# Altium footprint library FLOM_Converter.PcbLib: 5 footprints
Each footprint in its own frame and in the unit in brackets; x right, y up, seen from the top. Pads: shape width x height; smd on the part's side, far side on the other; paste and mask are expansions set on the pad; w line width, h text height; cw(c..) or ccw(c..) is an arc to the next point about the centre after c.
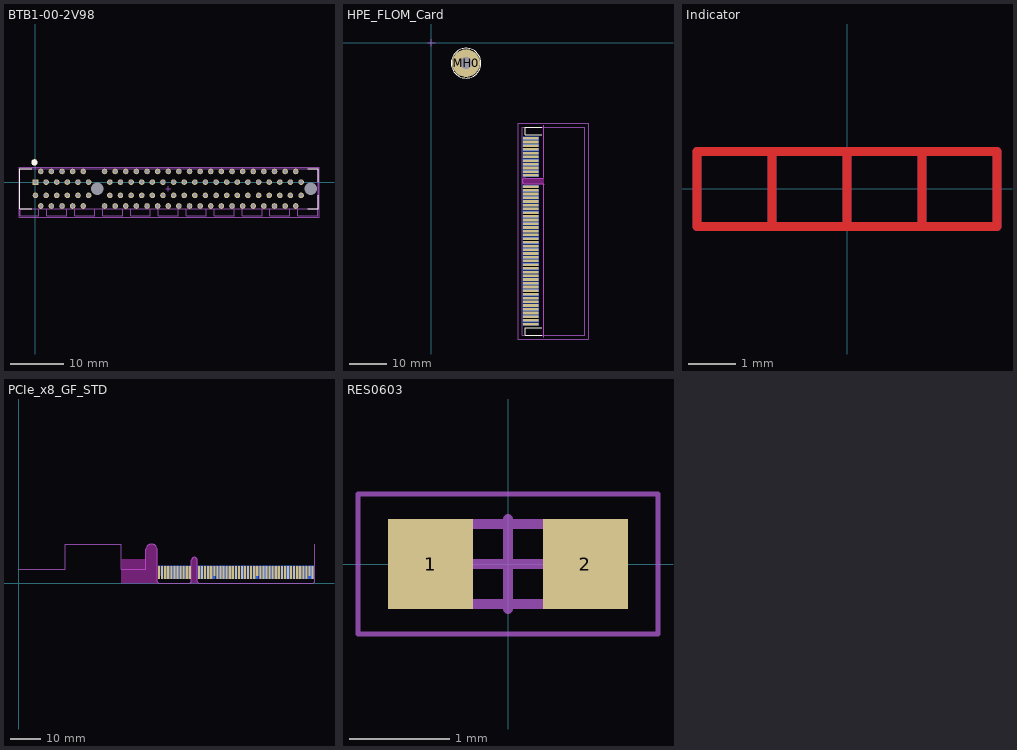
[diagram p0: the footprints below, top view; thin cyan lines are the x and y axes]

## BTB1-00-2V98 [mm] "Board-to-Board Connector, PTH, Vertical, Pitch 1.00mm, 98-Position"
pads (100):
  rect 1.05x1.05 hole 0.7: A1(0,0)
  round 1.05 hole 0.7: A2(1,2) A3(2,0) A4(3,2) A5(4,0) A6(5,2) A7(6,0) A8(7,2) A9(8,0) A10(9,2) A11(10,0) A12(13,2) A13(14,0) A14(15,2) A15(16,0) A16(17,2) A17(18,0) A18(19,2) A19(20,0) A20(21,2) A21(22,0) A22(23,2) A23(24,0) A24(25,2) A25(26,0) A26(27,2) A27(28,0) A28(29,2) A29(30,0) A30(31,2) A31(32,0) A32(33,2) A33(34,0) A34(35,2) A35(36,0) A36(37,2) A37(38,0) A38(39,2) A39(40,0) A40(41,2) A41(42,0) A42(43,2) A43(44,0) A44(45,2) A45(46,0) A46(47,2) A47(48,0) A48(49,2) A49(50,0) B1(0,-2.5) B2(1,-4.5) B3(2,-2.5) B4(3,-4.5) B5(4,-2.5) B6(5,-4.5) B7(6,-2.5) B8(7,-4.5) B9(8,-2.5) B10(9,-4.5) B11(10,-2.5) B12(13,-4.5) B13(14,-2.5) B14(15,-4.5) B15(16,-2.5) B16(17,-4.5) B17(18,-2.5) B18(19,-4.5) B19(20,-2.5) B20(21,-4.5) B21(22,-2.5) B22(23,-4.5) B23(24,-2.5) B24(25,-4.5) B25(26,-2.5) B26(27,-4.5) B27(28,-2.5) B28(29,-4.5) B29(30,-2.5) B30(31,-4.5) B31(32,-2.5) B32(33,-4.5) B33(34,-2.5) B34(35,-4.5) B35(36,-2.5) B36(37,-4.5) B37(38,-2.5) B38(39,-4.5) B39(40,-2.5) B40(41,-4.5) B41(42,-2.5) B42(43,-4.5) B43(44,-2.5) B44(45,-4.5) B45(46,-2.5) B46(47,-4.5) B47(48,-2.5) B48(49,-4.5) B49(50,-2.5)
  round 2.05 hole 2.35 unplated: MH1(11.65,-1.25) MH2(51.8,-1.25)
Top Overlay:
  circle w0.6: c-0.192,3.703 r0.3
  lines w0.2: -0.66,-5 -2.975,-5 -2.975,2.5 -0.66,2.5 ; 51.295,-5 53.275,-5 53.275,-2.52 ; 51.295,2.5 53.275,2.5 53.275,0.02
Mechanical 13:
  lines w0.1: -2.85,-5 -2.85,-6.35 ; 0.65,-5 0.65,-6.35 -2.85,-6.35 ; 2.15,-5 2.15,-6.35 5.9,-6.35 5.9,-5 ; 7.4,-5 7.4,-6.35 11.15,-6.35 11.15,-5 11.151,-5 ; 12.65,-5 12.65,-6.35 16.4,-6.35 16.4,-5 ; 17.9,-5 17.9,-6.35 21.65,-6.35 21.65,-5 ; 23.15,-5 23.15,-6.35 26.9,-6.35 26.914,-6.35 26.914,-5 ; 28.438,-5 28.4,-5 28.4,-6.35 32.15,-6.35 32.15,-5 ; 33.645,-5 33.65,-5 33.65,-6.35 37.4,-6.35 37.4,-5 ; 36.125,-5 36.82,-5 ; 38.9,-5 38.9,-6.35 42.65,-6.35 42.65,-5 42.662,-5 ; 44.15,-5 44.15,-6.35 47.9,-6.35 47.9,-5 ; 49.393,-5 49.4,-5 49.4,-6.35 53.125,-6.35 53.125,-5 ; -2.85,-6.35 -2.85,-6.35 ; -2.975,-5 -2.975,2.5 53.275,2.5 53.275,-5 -2.975,-5
Mechanical 15:
  lines w0.1: 24.5,-1.25 25.5,-1.25 ; 25,-1.75 25,-0.75 ; -3.1,-6.6 53.375,-6.6 53.375,2.75 -3.1,2.75 -3.1,-6.6
3D body: height 11.25, standoff 7.5, extent -2.875,-6.35 0.65,-5
3D body: height 11.25, standoff 7.5, extent 2.15,-6.35 5.9,-5
3D body: height 11.25, standoff 7.5, extent 7.4,-6.35 11.15,-5
3D body: height 11.25, standoff 7.5, extent 12.65,-6.35 16.4,-5
3D body: height 11.25, standoff 7.5, extent 17.9,-6.35 21.65,-5
3D body: height 11.25, standoff 7.5, extent 23.15,-6.35 26.914,-5
3D body: height 11.25, standoff 7.5, extent 28.4,-6.35 32.15,-5
3D body: height 11.25, standoff 7.5, extent 33.645,-6.35 37.4,-5
3D body: height 11.25, standoff 7.5, extent 38.9,-6.35 42.662,-5
3D body: height 11.25, standoff 7.5, extent 44.15,-6.35 48.114,-5
3D body: height 11.25, standoff 7.5, extent 49.4,-6.35 53.15,-5
3D body: height 11.25, standoff 1.25, extent -2.875,-5 53.15,2.5
3D body: height 11.25, standoff 1.25, extent -0.865,-0.35 51.162,2.5
3D body: height 11.25, standoff 1.25, extent 10.785,-0.35 12.515,-0.35
3D body: height 11.25, standoff 1.25, extent 10.785,-2.15 12.515,-0.35
3D body: height 1.25, standoff 0, extent 51.75,-4.1 52.95,-2.35
3D body: height 1.25, standoff 0, extent 51.75,-0.15 52.95,1.6
3D body: height 1.25, standoff 0, extent -2.75,0.4 -1.75,1.6
3D body: height 1.25, standoff 0, extent -2.75,-4.1 -1.75,-2.9

## HPE_FLOM_Card [mm] "HPE FlexibleLOM Card with standard PCIe Bracket"
height 22
pads (99):
  rect 4.2x0.7 smd far side: A1(26.76,-25.7) A2(26.76,-26.7) A3(26.76,-27.7) A4(26.76,-28.7) A5(26.76,-29.7) A6(26.76,-30.7) A7(26.76,-31.7) A8(26.76,-32.7) A9(26.76,-33.7) A10(26.76,-34.7) A11(26.76,-35.7) A12(26.76,-38.7) A13(26.76,-39.7) A14(26.76,-40.7) A15(26.76,-41.7) A16(26.76,-42.7) A17(26.76,-43.7) A18(26.76,-44.7) A19(26.76,-45.7) A20(26.76,-46.7) A21(26.76,-47.7) A22(26.76,-48.7) A23(26.76,-49.7) A24(26.76,-50.7) A25(26.76,-51.7) A26(26.76,-52.7) A27(26.76,-53.7) A28(26.76,-54.7) A29(26.76,-55.7) A30(26.76,-56.7) A31(26.76,-57.7) A32(26.76,-58.7) A33(26.76,-59.7) A34(26.76,-60.7) A35(26.76,-61.7) A36(26.76,-62.7) A37(26.76,-63.7) A38(26.76,-64.7) A39(26.76,-65.7) A40(26.76,-66.7) A41(26.76,-67.7) A42(26.76,-68.7) A43(26.76,-69.7) A44(26.76,-70.7) A45(26.76,-71.7) A46(26.76,-72.7) A47(26.76,-73.7) A48(26.76,-74.7) A49(26.76,-75.7)
  rect 4.2x0.7 smd: B1(26.76,-25.7) B2(26.76,-26.7) B3(26.76,-27.7) B4(26.76,-28.7) B5(26.76,-29.7) B6(26.76,-30.7) B7(26.76,-31.7) B8(26.76,-32.7) B9(26.76,-33.7) B10(26.76,-34.7) B11(26.76,-35.7) B12(26.76,-38.7) B13(26.76,-39.7) B14(26.76,-40.7) B15(26.76,-41.7) B16(26.76,-42.7) B17(26.76,-43.7) B18(26.76,-44.7) B19(26.76,-45.7) B20(26.76,-46.7) B21(26.76,-47.7) B22(26.76,-48.7) B23(26.76,-49.7) B24(26.76,-50.7) B25(26.76,-51.7) B26(26.76,-52.7) B27(26.76,-53.7) B28(26.76,-54.7) B29(26.76,-55.7) B30(26.76,-56.7) B31(26.76,-57.7) B32(26.76,-58.7) B33(26.76,-59.7) B34(26.76,-60.7) B35(26.76,-61.7) B36(26.76,-62.7) B37(26.76,-63.7) B38(26.76,-64.7) B39(26.76,-65.7) B40(26.76,-66.7) B41(26.76,-67.7) B42(26.76,-68.7) B43(26.76,-69.7) B44(26.76,-70.7) B45(26.76,-71.7) B46(26.76,-72.7) B47(26.76,-73.7) B48(26.76,-74.7) B49(26.76,-75.7)
  round 7.5 hole 3.2: MH0(9.35,-5.5)
Top Overlay:
  circle w0.2: c9.35,-5.5 r4
  lines w0.2: 29.76,-78.7 25.26,-78.7 25.26,-76.7 29.76,-76.7 ; 29.76,-24.7 25.26,-24.7 25.26,-22.7 29.76,-22.7
Bottom Overlay:
  circle w0.2: c9.35,-5.5 r4
  lines w0.2: 29.76,-78.7 25.26,-78.7 25.26,-76.7 29.76,-76.7 ; 29.76,-24.7 25.26,-24.7 25.26,-22.7 29.76,-22.7
Keep-Out Layer:
  board cut-out: 30.26,-36.2 30.06,-36.4 25.26,-36.4 25.181,-36.4 25.027,-36.431 24.881,-36.491 24.75,-36.579 24.639,-36.69 24.551,-36.821 24.491,-36.967 24.46,-37.121 24.46,-37.2 24.46,-37.279 24.491,-37.433 24.551,-37.579 24.639,-37.71 24.75,-37.821 24.881,-37.909 25.027,-37.969 25.181,-38 25.26,-38 30.06,-38 30.26,-38.2
Keep-Out Layer:
  lines w0.1: 30.26,-79.2 30.26,-38.2 30.06,-38 25.26,-38 cw(c25.26,-37.2) 25.26,-36.4 30.06,-36.4 30.26,-36.2 30.26,-22.2
Mechanical 1:
  lines w0.1: 30.26,-79.2 30.26,-38.2 30.06,-38 25.26,-38 cw(c25.26,-37.2) 25.26,-36.4 30.06,-36.4 30.26,-36.2 30.26,-22.2
Mechanical 13:
  lines w0.1: 24.51,-78.7 41.335,-78.7 41.335,-22.7 24.51,-22.7 24.51,-78.7
Mechanical 15:
  lines w0.05: 23.26,-79.7 42.26,-79.7 42.26,-21.7 23.26,-21.7 23.26,-79.7
  lines w0.1: -1,0 1,0 ; 0,-1 0,1
3D body "FLB2.STEP": height 15.54, standoff -6.04, extent -15.045,-118 106.24,13.7

## Indicator [mm]
Top Layer:
  lines w0.2: -1.6,-0.8 -1.6,0.8 ; 0,-0.8 0,0.8 ; 1.6,-0.8 1.6,0.8 ; -3.2,-0.8 -3.2,0.8 3.2,0.8 3.2,-0.8 -3.2,-0.8
  text "1" at -2.567,-0.5 h1
Bottom Layer:
  lines w0.2: -1.6,-0.8 -1.6,0.8 ; 0,-0.8 0,0.8 ; 1.6,-0.8 1.6,0.8 ; -3.2,-0.8 -3.2,0.8 3.2,0.8 3.2,-0.8 -3.2,-0.8
  text "4" at 2.067,-0.5 h1
Layer 1:
  region: 1.7,-0.7 3.1,-0.7 3.1,0.7 1.7,0.7
  region: 0.1,-0.7 1.5,-0.7 1.5,0.7 0.1,0.7
  region: -3.1,-0.7 -1.7,-0.7 -1.7,0.7 -3.1,0.7
  lines w0.2: -1.6,-0.8 -1.6,0.8 ; 0,-0.8 0,0.8 ; 1.6,-0.8 1.6,0.8 ; -3.2,-0.8 -3.2,0.8 3.2,0.8 3.2,-0.8 -3.2,-0.8
  text "2" at -1.133,-0.5 h1
Layer 2:
  region: 1.7,-0.7 3.1,-0.7 3.1,0.7 1.7,0.7
  region: -3.1,-0.7 -1.7,-0.7 -1.7,0.7 -3.1,0.7
  region: -1.5,-0.7 -0.1,-0.7 -0.1,0.7 -1.5,0.7
  lines w0.2: -1.6,-0.8 -1.6,0.8 ; 0,-0.8 0,0.8 ; 1.6,-0.8 1.6,0.8 ; -3.2,-0.8 -3.2,0.8 3.2,0.8 3.2,-0.8 -3.2,-0.8
  text "3" at 0.467,-0.5 h1

## PCIe_x8_GF_STD [mm] "PCIe x8 Gold Finger Standard Length"
pads (98):
  rect 0.7x3.2 smd far side: A1(45.65,4)
  rect 0.7x4.2 smd far side: A2(46.65,3.5) A3(47.65,3.5) A4(48.65,3.5) A5(49.65,3.5) A6(50.65,3.5) A7(51.65,3.5) A8(52.65,3.5) A9(53.65,3.5) A10(54.65,3.5) A11(55.65,3.5) A12(58.65,3.5) A13(59.65,3.5) A14(60.65,3.5) A15(61.65,3.5) A16(62.65,3.5) A17(63.65,3.5) A18(64.65,3.5) A19(65.65,3.5) A20(66.65,3.5) A21(67.65,3.5) A22(68.65,3.5) A23(69.65,3.5) A24(70.65,3.5) A25(71.65,3.5) A26(72.65,3.5) A27(73.65,3.5) A28(74.65,3.5) A29(75.65,3.5) A30(76.65,3.5) A31(77.65,3.5) A32(78.65,3.5) A33(79.65,3.5) A34(80.65,3.5) A35(81.65,3.5) A36(82.65,3.5) A37(83.65,3.5) A38(84.65,3.5) A39(85.65,3.5) A40(86.65,3.5) A41(87.65,3.5) A42(88.65,3.5) A43(89.65,3.5) A44(90.65,3.5) A45(91.65,3.5) A46(92.65,3.5) A47(93.65,3.5) A48(94.65,3.5) A49(95.65,3.5)
  rect 0.7x4.2 smd: B1(45.65,3.5) B2(46.65,3.5) B3(47.65,3.5) B4(48.65,3.5) B5(49.65,3.5) B6(50.65,3.5) B7(51.65,3.5) B8(52.65,3.5) B9(53.65,3.5) B10(54.65,3.5) B11(55.65,3.5) B12(58.65,3.5) B13(59.65,3.5) B14(60.65,3.5) B15(61.65,3.5) B16(62.65,3.5) B18(64.65,3.5) B19(65.65,3.5) B20(66.65,3.5) B21(67.65,3.5) B22(68.65,3.5) B23(69.65,3.5) B24(70.65,3.5) B25(71.65,3.5) B26(72.65,3.5) B27(73.65,3.5) B28(74.65,3.5) B29(75.65,3.5) B30(76.65,3.5) B32(78.65,3.5) B33(79.65,3.5) B34(80.65,3.5) B35(81.65,3.5) B36(82.65,3.5) B37(83.65,3.5) B38(84.65,3.5) B39(85.65,3.5) B40(86.65,3.5) B41(87.65,3.5) B42(88.65,3.5) B43(89.65,3.5) B44(90.65,3.5) B45(91.65,3.5) B46(92.65,3.5) B47(93.65,3.5) B49(95.65,3.5)
  rect 0.7x3.2 smd: B17(63.65,4) B31(77.65,4) B48(94.65,4)
Top Solder:
  rectangle: 44.75,-0.25 96.55,5.725
  rectangle: 33.35,4.5 41.35,7.95
Bottom Solder:
  rectangle: 44.75,-0.25 96.55,5.725
  rectangle: 33.35,4.5 41.35,7.95
Keep-Out Layer:
  board cut-out: 56.2,7.45 56.2,7.575 56.265,7.817 56.39,8.033 56.567,8.21 56.783,8.335 57.025,8.4 57.275,8.4 57.517,8.335 57.733,8.21 57.91,8.033 58.035,7.817 58.1,7.575 58.1,7.45 58.1,0.5 58.6,0 55.7,0 56.2,0.5
  board cut-out: 41.35,10.925 41.35,11.105 41.42,11.457 41.558,11.789 41.757,12.088 42.012,12.343 42.311,12.542 42.643,12.68 42.995,12.75 43.355,12.75 43.707,12.68 44.039,12.542 44.338,12.343 44.593,12.088 44.792,11.789 44.93,11.457 45,11.105 45,10.925 45,0.5 45.5,0 33.35,0 33.35,4.5 41.35,4.5
Keep-Out Layer:
  rectangle: 33.35,4.5 41.35,7.95
Mechanical 1:
  region: 45.5,0
  region: 0,4.5
  lines w0.1: 0,4.5 15,4.5 15,12.75 33.35,12.75 33.35,4.5 41.35,4.5 41.35,10.925 cw(c43.175,10.925) 45,10.925 45,0.5 45.5,0 55.7,0 56.2,0.5 56.2,7.45 cw(c57.15,7.45) 58.1,7.45 58.1,0.5 58.6,0 95.8,0 96.3,0.5 96.3,12.75

## RES0603 [mm] "Chip Resistor, 2-Leads, Body 1.60x0.80mm, IPC Medium Density"
height 0.55
pads (2):
  rect 0.85x0.9 smd: 1(-0.775,0) 2(0.775,0)
Mechanical 13:
  lines w0.1: -0.8,-0.4 0.8,-0.4 0.8,0.4 -0.8,0.4 -0.8,-0.4
Mechanical 15:
  lines w0.05: -1.5,-0.7 -1.5,0.7 1.5,0.7 1.5,-0.7 -1.5,-0.7
  lines w0.1: -0.45,0 0.45,0 ; 0,-0.45 0,0.45
3D body "RES0603.SLDPRT": height 0.45, standoff 0, extent -0.8,-0.4 0.8,0.4